# Altium schematic symbol library MB1046.SCHLIB: 10 symbols
Pins are listed as number, name and electrical type; pins without a type are passive.

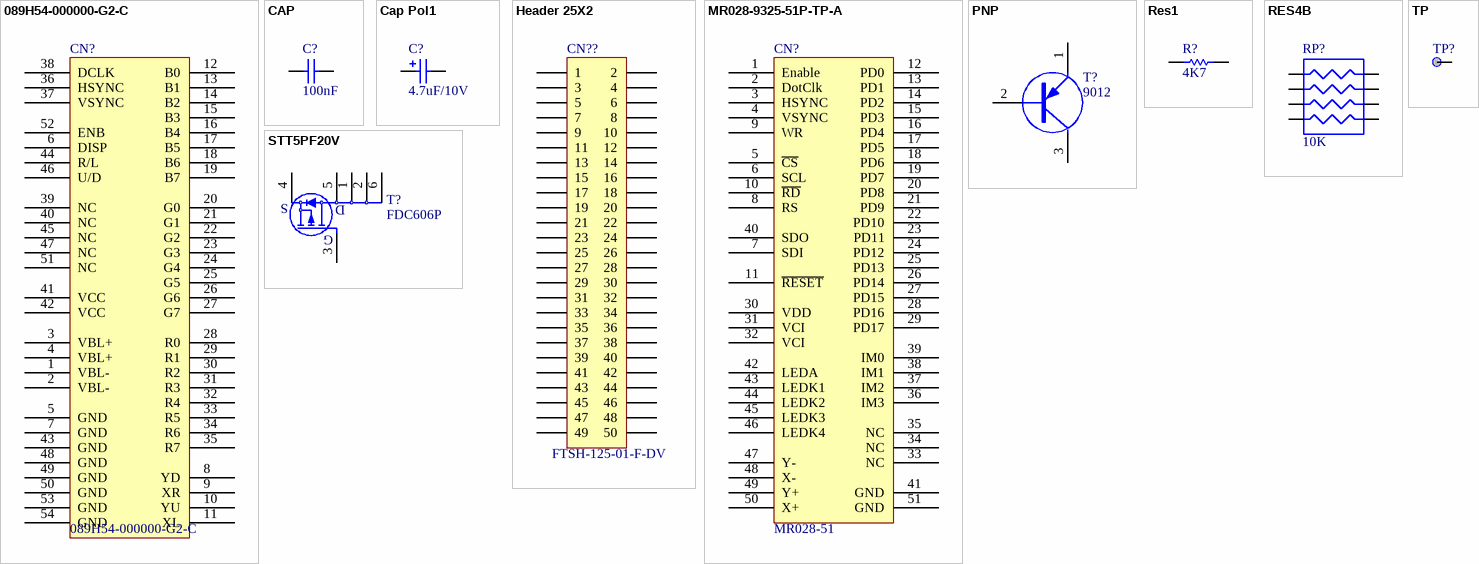
[diagram p0: symbols 089H54-000000-G2-C to TP]

## 089H54-000000-G2-C
designator CN?
footprint Pitch 0.5 x 54 PIN ZIF Connector (Footprint not found)
pins: 1 VBL-, 2 VBL-, 3 VBL+, 4 VBL+, 5 GND, 6 DISP, 7 GND, 8 YD, 9 XR, 10 YU, 11 XL, 12 B0, 13 B1, 14 B2, 15 B3, 16 B4, 17 B5, 18 B6, 19 B7, 20 G0, 21 G1, 22 G2, 23 G3, 24 G4, 25 G5, 26 G6, 27 G7, 28 R0, 29 R1, 30 R2, 31 R3, 32 R4, 33 R5, 34 R6, 35 R7, 36 HSYNC, 37 VSYNC, 38 DCLK, 39 NC, 40 NC, 41 VCC, 42 VCC, 43 GND, 44 R/L, 45 NC, 46 U/D, 47 NC, 48 GND, 49 GND, 50 GND, 51 NC, 52 ENB, 53 GND, 54 GND

## CAP
designator C?, comment 100nF
Capacitor; Value: 100pF; Published: 8-Jun-2000; Revision: July-2002: Re-released for DXP Platform.; Publisher: Altium Limited
footprint RAD-0.3 (Capacitor; 2 Leads)
simulation model CAP (Capacitor)
signal-integrity model Cap
footprint CAPR5.08-7.8X3.2
footprint CAPR2.54-5.1X3.2
footprint 0603
footprint 0603 (Footprint not found)
footprint 0603C
footprint 0402C
pins: 1, 2

## Cap Pol1
designator C?, comment 4.7uF/10V
Polarized Capacitor (Radial); Value: 100pF; Published: 8-Jun-2000; Revision: July-2002: Re-released for DXP Platform.; Publisher: Altium Limited
footprint TAN-B (Footprint not found)
simulation model CAP (Capacitor)
signal-integrity model Cap Pol
footprint CAPPR1.5-4X5
footprint CAPPR1.27-1.96X4.06
footprint CAPPR2-5X6.8
footprint CAPPR5-5X5
footprint CAPPR7.5-16X35
footprint TAN-A
footprint 1206C
pins: 1, 2

## Header 25X2
designator CN??, comment FTSH-125-01-F-DV
Header, 26-Pin, Dual row; Revision: 17-Jul-2002: Re-released for DXP Platform.; Publisher: Altium Limited
signal-integrity model Connector
footprint 2*25 SMT 1.27mm (Footprint not found)
pins: 1, 2, 3, 4, 5, 6, 7, 8, 9, 10, 11, 12, 13, 14, 15, 16, 17, 18, 19, 20, 21, 22, 23, 24, 25, 26, 27, 28, 29, 30, 31, 32, 33, 34, 35, 36, 37, 38, 39, 40, 41, 42, 43, 44, 45, 46, 47, 48, 49, 50

## MR028-9325-51P-TP-A
designator CN?, comment MR028-51
footprint MR028-51 (Footprint not found)
footprint XF2B-5145
pins: 1 Enable, 2 DotClk, 3 HSYNC, 4 VSYNC, 5 ~{CS}, 6 SCL, 7 SDI, 8 RS, 9 WR, 10 ~{RD}, 11 ~{RESET}, 12 PD0, 13 PD1, 14 PD2, 15 PD3, 16 PD4, 17 PD5, 18 PD6, 19 PD7, 20 PD8, 21 PD9, 22 PD10, 23 PD11, 24 PD12, 25 PD13, 26 PD14, 27 PD15, 28 PD16, 29 PD17, 30 VDD, 31 VCI, 32 VCI, 33 NC, 34 NC, 35 NC, 36 IM3, 37 IM2, 38 IM1, 39 IM0, 40 SDO, 41 GND, 42 LEDA, 43 LEDK1, 44 LEDK2, 45 LEDK3, 46 LEDK4, 47 Y-, 48 X-, 49 Y+, 50 X+, 51 GND

## PNP
designator T?, comment 9012
footprint SOT-23
pins: 1 E, 2 B, 3 C

## Res1
designator R?, comment 4K7
Resistor; Value: 1K; Published: 8-Jun-2000; Revision: July-2002: Re-released for DXP Platform.; Publisher: Altium Limited
footprint AXIAL-0.3
footprint 0603
footprint 0603R
footprint 0402R
pins: 1, 2
2 alternate drawings of the same symbol

## RES4B
designator RP?, comment 10K
footprint RES-4B
pins: 1 R0, 2 R1, 3 R2, 4 R3, 5 R3, 6 R2, 7 R1, 8 R0
2 alternate drawings of the same symbol

## STT5PF20V
designator T?, comment FDC606P
footprint Model Name (Footprint not found)
footprint SOT23-6L
pins: 1 D, 2 D, 3 G, 4 S, 5 D, 6 D

## TP
designator TP?
footprint TP
pins: 1